# Altium footprint library Potentiometer 20K.PcbLib: 1 footprints
Each footprint in its own frame and in the unit in brackets; x right, y up, seen from the top. Pads: shape width x height; smd on the part's side, far side on the other; paste and mask are expansions set on the pad; w line width, h text height; cw(c..) or ccw(c..) is an arc to the next point about the centre after c.
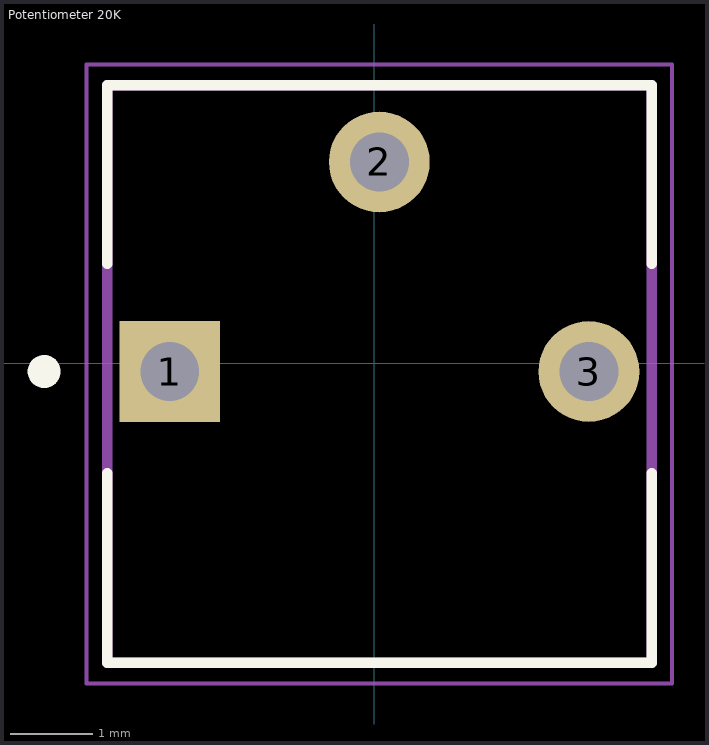
[diagram p0: the footprint, top view; thin cyan lines are the x and y axes]

## Potentiometer 20K [mm]
pads (3):
  rect 1.222x1.222 hole 0.714: 1(-2.48,-0.1)
  round 1.222 hole 0.714: 2(0.06,2.44) 3(2.6,-0.1)
Top Overlay:
  circle w0.2: c-4.004,-0.1 r0.1
  lines w0.127: -3.24,-3.63 3.36,-3.63 ; -3.24,-3.62 -3.24,-1.335 ; -3.24,1.205 -3.24,3.37 3.36,3.37 3.36,1.205 ; 3.36,-3.62 3.36,-1.335
Mechanical 4:
  lines w0.127: -3.24,-3.63 -3.24,3.37 ; -3.24,-3.63 3.36,-3.63 ; -3.24,-3.63 -3.24,3.37 ; -3.24,-3.63 3.36,-3.63 ; -3.24,3.37 3.36,3.37 ; -3.24,3.37 3.36,3.37 ; 3.36,-3.63 3.36,3.37 ; 3.36,-3.63 3.36,3.37
Mechanical 16:
  lines w0.05: -3.49,-3.88 -3.49,3.62 3.61,3.62 3.61,-3.88 -3.49,-3.88